# Altium footprint library MF_Connectors.PCBLIB: 52 footprints (part 1 of 4)
Each footprint in its own frame and in the unit in brackets; x right, y up, seen from the top. Pads: shape width x height; smd on the part's side, far side on the other; paste and mask are expansions set on the pad; w line width, h text height; cw(c..) or ccw(c..) is an arc to the next point about the centre after c.
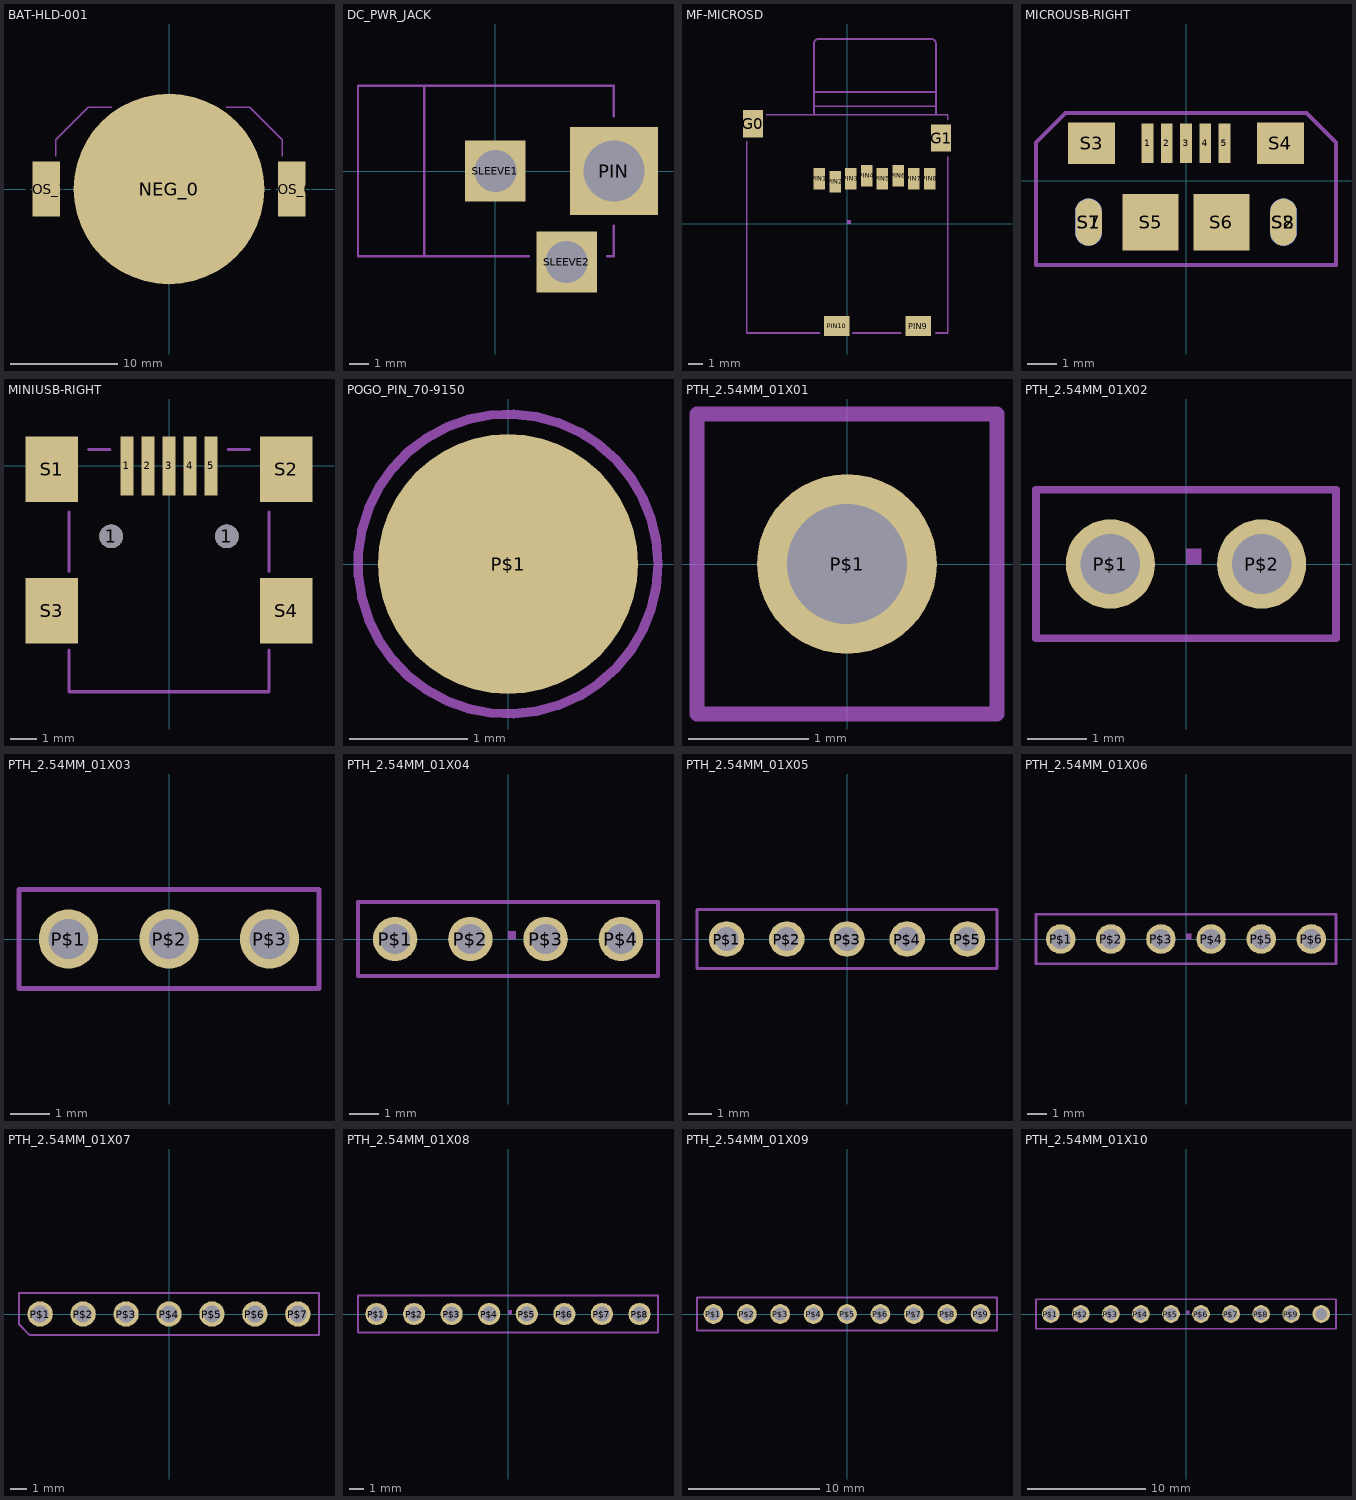
[diagram p0: the footprints below, top view; thin cyan lines are the x and y axes]

## BAT-HLD-001 [mm]
pads (3):
  rrect100% 17.78x17.78 smd paste+0: NEG_0(0,0)
  rect 2.54x5.08 smd: POS_0(11.43,0) POS_1(-11.43,0)
Mechanical 22:
  lines w0.127: -10.541,3.048 -10.541,4.591 -7.512,7.62 -5.334,7.62 ; 5.334,7.62 7.512,7.62 10.541,4.591 10.541,3.048

## DC_PWR_JACK [mm]
pads (3):
  rect 4.647x4.647 / inner rect 1.524x1.524 / far side rect 4.647x4.647 hole 3.2: PIN(6.25,0)
  rect 3.195x3.195 / inner rect 1.524x1.524 / far side rect 3.195x3.195 hole 2.2: SLEEVE1(0,0) SLEEVE2(3.75,-4.8)
Mechanical 22:
  lines w0.127: 1.75,-4.5 -3.75,-4.5 ; 5.905,-4.5 6.25,-4.5 6.25,-2.885 ; 6.25,2.885 6.25,4.5 -3.75,4.5 ; -3.75,-4.5 -7.25,-4.5 -7.25,4.5 -3.75,4.5 ; -3.75,-4.5 -3.75,4.5

## MF-MICROSD [mil]
pads (12):
  rect 55.12x74.8 smd: G0(-259.4,275.64) G1(258.32,236.27)
  rect 31.5x59.06 smd: PIN1(-76.33,124.07) PIN2(-33.02,116.19) PIN3(10.29,124.07) PIN4(53.59,131.94) PIN5(96.9,124.07) PIN6(140.21,131.94) PIN7(183.51,124.07) PIN8(226.82,124.07)
  rect 70.87x55.12 smd: PIN9(195.32,-281.45) PIN10(-29.08,-281.45)
Assembly Top:
  lines w5: -91.58,300.2 -91.58,323.82 ; 244.05,300.2 244.05,323.82 -91.58,323.82 ; 244.05,324.85 244.05,363.19 ; -91.58,323.82 -91.58,363.19 ; -91.58,363.19 244.05,363.19 ; -91.58,363.19 -91.58,496.36 cw(c-79.08,496.36) -79.08,508.86 231.55,508.86 cw(c231.55,496.36) 244.05,496.36 244.05,363.19
Mechanical 22:
  region: 0,0 10,0 10,10 0,10
  lines w5: -276.57,227.41 -276.57,-300.2 -75.34,-300.2 ; -222.44,300.2 276.57,300.2 276.57,286.96 ; 15.75,-300.2 146.6,-300.2 ; 244.05,-300.2 276.57,-300.2 276.57,184.1

## MICROUSB-RIGHT [mm]
pads (13):
  rect 0.4x1.35 smd: 1(-1.3,1.27) 2(-0.65,1.27) 3(0,1.27) 4(0.65,1.27) 5(1.3,1.27)
  rrect100% 0.9x1.6 smd: S1(-3.3,-1.4) S2(3.3,-1.4)
  rect 1.6x1.4 smd: S3(-3.2,1.27) S4(3.2,1.27)
  rect 1.9x1.9 smd: S5(-1.2,-1.405) S6(1.2,-1.405)
  rrect100% 0.9x1.6 smd far side paste+0: S7(-3.3,-1.4) S8(3.3,-1.4)
Outline:
  lines w0.01: -3.55,-1.75 -3.55,-1.05 cw(c-3.3,-1.05) -3.3,-0.8 cw(c-3.3,-1.05) -3.05,-1.05 -3.05,-1.75 cw(c-3.3,-1.75) -3.3,-2 cw(c-3.3,-1.75) -3.55,-1.75 ; 3.05,-1.75 3.05,-1.05 cw(c3.3,-1.05) 3.3,-0.8 cw(c3.3,-1.05) 3.55,-1.05 3.55,-1.75 cw(c3.3,-1.75) 3.3,-2 cw(c3.3,-1.75) 3.05,-1.75
Mechanical 22:
  lines w0.127: -5.08,-2.855 5.08,-2.855 5.08,1.3 4.08,2.3 -4.08,2.3 -5.08,1.3 -5.08,-2.855

## MINIUSB-RIGHT [mm]
pads (11):
  round 0.9 hole 0.9 unplated: 1(-2.2,-2.675) 1(2.2,-2.675)
  rect 0.5x2.25 smd: 1(-1.6,0) 2(-0.8,0) 3(0,0) 4(0.8,0) 5(1.6,0)
  rect 2x2.5 smd: S1(-4.45,-0.125) S2(4.45,-0.125) S3(-4.45,-5.5) S4(4.45,-5.5)
Mechanical 22:
  lines w0.127: -3.8,-7 -3.8,-8.575 3.8,-8.575 3.8,-7 ; -3.8,-4 -3.8,-1.75 ; -3.05,0.625 -2.25,0.625 ; 2.25,0.625 3.05,0.625 ; 3.8,-4 3.8,-1.75

## POGO_PIN_70-9150 [mm]
pads (1):
  rrect100% 2.2x2.2 smd: P$1(0,0)
Mechanical 22:
  circle w0.08: c0,0 r1.27

## PTH_2.54MM_01X01 [mm]
pads (1):
  round 1.5 / inner round 1.524 / far side round 1.5 hole 1: P$1(0,0)
Mechanical 22:
  region: 0,0 0.254,0 0.254,0.254 0,0.254
  lines w0.127: -1.25,-1.25 1.25,-1.25 1.25,1.25 -1.25,1.25 -1.25,-1.25

## PTH_2.54MM_01X02 [mm]
pads (2):
  round 1.5 / inner round 1.524 / far side round 1.5 hole 1: P$1(-1.27,0) P$2(1.27,0)
Mechanical 22:
  region: 0,0 0.254,0 0.254,0.254 0,0.254
  lines w0.127: -2.52,-1.25 2.52,-1.25 2.52,1.25 -2.52,1.25 -2.52,-1.25

## PTH_2.54MM_01X03 [mm]
pads (3):
  round 1.5 / inner round 1.524 / far side round 1.5 hole 1: P$1(-2.54,0) P$2(0,0) P$3(2.54,0)
Mechanical 22:
  region: 0,0 0.254,0 0.254,0.254 0,0.254
  lines w0.127: -3.79,-1.25 3.79,-1.25 3.79,1.25 -3.79,1.25 -3.79,-1.25

## PTH_2.54MM_01X04 [mm]
pads (4):
  round 1.5 / inner round 1.524 / far side round 1.5 hole 1: P$1(-3.81,0) P$2(-1.27,0) P$3(1.27,0) P$4(3.81,0)
Mechanical 22:
  region: 0,0 0.254,0 0.254,0.254 0,0.254
  lines w0.127: -5.06,-1.25 5.06,-1.25 5.06,1.25 -5.06,1.25 -5.06,-1.25

## PTH_2.54MM_01X05 [mm]
pads (5):
  round 1.5 / inner round 1.524 / far side round 1.5 hole 1: P$1(-5.08,0) P$2(-2.54,0) P$3(0,0) P$4(2.54,0) P$5(5.08,0)
Mechanical 22:
  region: 0,0 0.254,0 0.254,0.254 0,0.254
  lines w0.127: -6.33,-1.25 6.33,-1.25 6.33,1.25 -6.33,1.25 -6.33,-1.25

## PTH_2.54MM_01X06 [mm]
pads (6):
  round 1.5 / inner round 1.524 / far side round 1.5 hole 1: P$1(-6.35,0) P$2(-3.81,0) P$3(-1.27,0) P$4(1.27,0) P$5(3.81,0) P$6(6.35,0)
Mechanical 22:
  region: 0,0 0.254,0 0.254,0.254 0,0.254
  lines w0.127: -7.6,-1.25 7.6,-1.25 7.6,1.25 -7.6,1.25 -7.6,-1.25

## PTH_2.54MM_01X07 [mm]
pads (7):
  round 1.5 / inner round 1.524 / far side round 1.5 hole 1: P$1(-7.62,0) P$2(-5.08,0) P$3(-2.54,0) P$4(0,0) P$5(2.54,0) P$6(5.08,0) P$7(7.62,0)
Mechanical 22:
  region: 0,0 0.254,0 0.254,0.254 0,0.254
  lines w0.127: -8.87,-0.615 -8.235,-1.25 8.87,-1.25 8.87,1.25 -8.87,1.25 -8.87,-0.615

## PTH_2.54MM_01X08 [mm]
pads (8):
  round 1.5 / inner round 1.524 / far side round 1.5 hole 1: P$1(-8.89,0) P$2(-6.35,0) P$3(-3.81,0) P$4(-1.27,0) P$5(1.27,0) P$6(3.81,0) P$7(6.35,0) P$8(8.89,0)
Mechanical 22:
  region: 0,0 0.254,0 0.254,0.254 0,0.254
  lines w0.127: -10.14,-1.25 10.14,-1.25 10.14,1.25 -10.14,1.25 -10.14,-1.25

## PTH_2.54MM_01X09 [mm]
pads (9):
  round 1.5 / inner round 1.524 / far side round 1.5 hole 1: P$1(-10.16,0) P$2(-7.62,0) P$3(-5.08,0) P$4(-2.54,0) P$5(0,0) P$6(2.54,0) P$7(5.08,0) P$8(7.62,0) P$9(10.16,0)
Mechanical 22:
  region: 0,0 0.254,0 0.254,0.254 0,0.254
  lines w0.127: -11.41,-1.25 11.41,-1.25 11.41,1.25 -11.41,1.25 -11.41,-1.25

## PTH_2.54MM_01X10 [mm]
pads (10):
  round 1.5 / inner round 1.524 / far side round 1.5 hole 1: P$1(-11.43,0) P$2(-8.89,0) P$3(-6.35,0) P$4(-3.81,0) P$5(-1.27,0) P$6(1.27,0) P$7(3.81,0) P$8(6.35,0) P$9(8.89,0) P$10(11.43,0)
Mechanical 22:
  region: 0,0 0.254,0 0.254,0.254 0,0.254
  lines w0.127: -12.68,-1.25 12.68,-1.25 12.68,1.25 -12.68,1.25 -12.68,-1.25